# EAGLE library part TPL0401B (library tpl0401b)
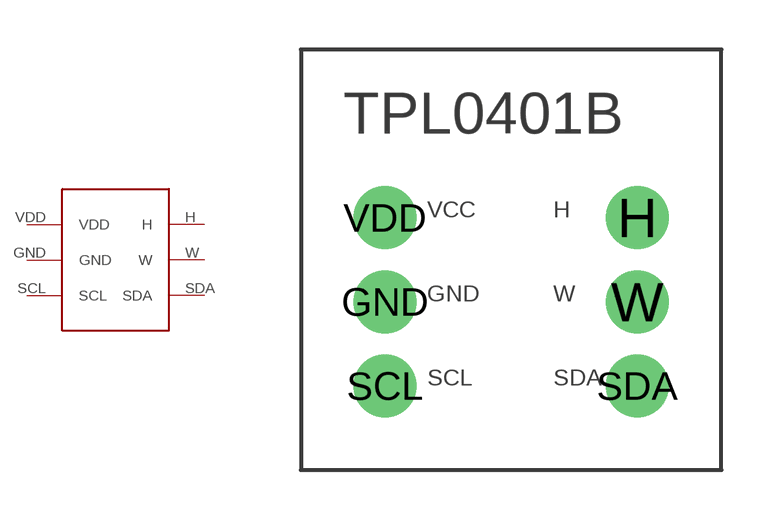
[diagram p1: symbol with the pads of TPL0401B; footprint TPL0401B]

Designator prefix -

## TPL0401B  [TPL0401B]
GND  GND
H  H
SCL  SCL
SDA  SDA
VDD  VDD
W  W

## Footprint TPL0401B (pad centres in mm)
drill 0.5 pad 1.905: GND -3.81,0; H 3.81,2.54; SCL -3.81,-2.54; SDA 3.81,-2.54; VDD -3.81,2.54; W 3.81,0